# Altium footprint library CONN_HDR_2.54MM_ST_SMD.PcbLib: 27 footprints (part 1 of 2)
Each footprint in its own frame and in the unit in brackets; x right, y up, seen from the top. Pads: shape width x height; smd on the part's side, far side on the other; paste and mask are expansions set on the pad; w line width, h text height; cw(c..) or ccw(c..) is an arc to the next point about the centre after c.
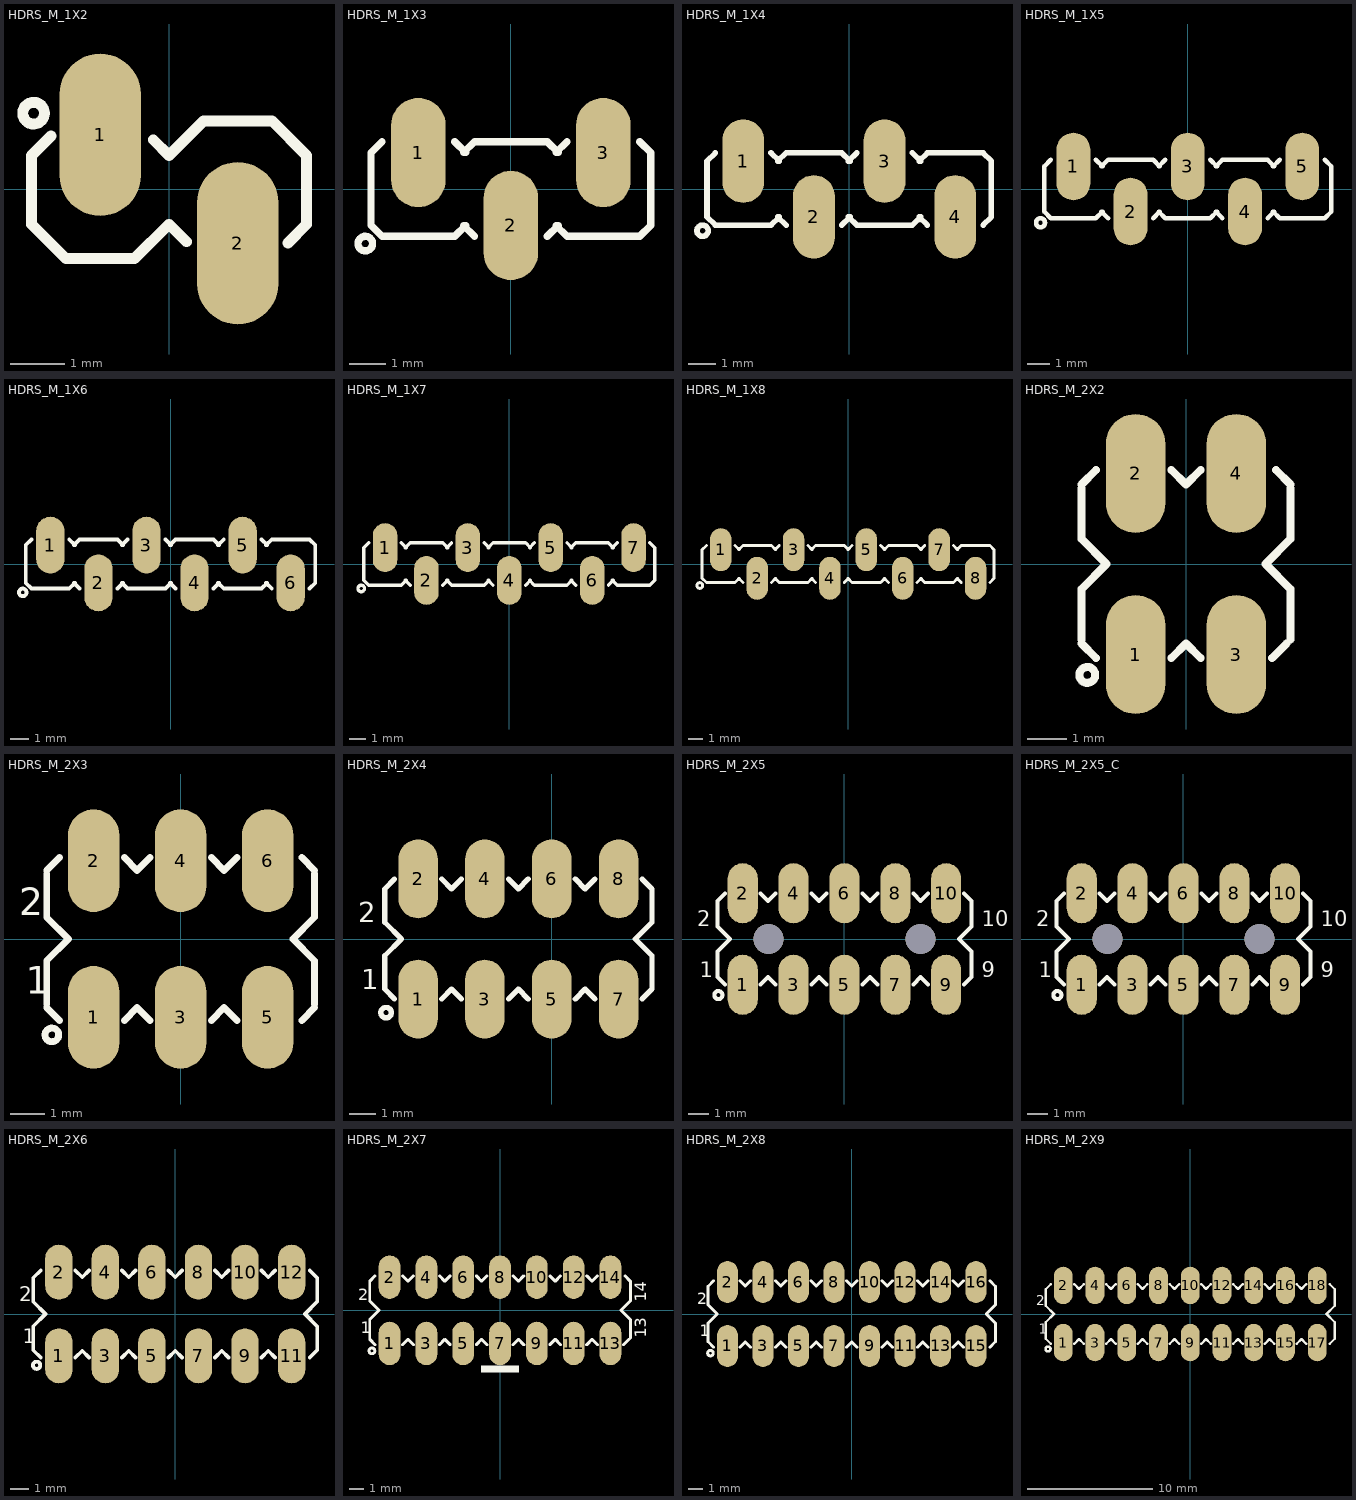
[diagram p0: the footprints below, top view; thin cyan lines are the x and y axes]

## HDRS_M_1X2 [mm] "HEADER, 2.54mm pitch, straight, SMD"
pads (2):
  oval 1.5x3 smd: 1(-1.27,1) 2(1.27,-1)
Top Overlay:
  circle w0.2: c-2.5,1.4 r0.2
  lines w0.2: -2.18,0.98 -2.54,0.619 -2.54,-0.651 -1.905,-1.286 -0.635,-1.286 0,-0.651 0.325,-0.975 ; -0.29,0.91 0,0.619 0.635,1.254 1.905,1.254 2.54,0.619 2.54,-0.651 2.195,-0.995

## HDRS_M_1X3 [mm] "HEADER, 2.54mm pitch, straight, SMD"
pads (3):
  oval 1.5x3 smd: 1(-2.54,1) 2(0,-1) 3(2.54,1)
Top Overlay:
  circle w0.2: c-4,-1.5 r0.2
  lines w0.2: -3.54,1.3 -3.84,1 -3.84,-1 -3.54,-1.3 -1.54,-1.3 -1.24,-1 ; -1.54,1.3 -1.24,1 ; -1.3,-1 -1,-1.3 ; -1.3,1 -1,1.3 1,1.3 1.3,1 ; 1,-1.3 1.3,-1 ; 1.24,-1 1.54,-1.3 3.54,-1.3 3.84,-1 3.84,1 3.54,1.3 ; 1.24,1 1.54,1.3
3D body "HEADER1X3SMD.stp": height 9.68, standoff 0.03, extent -3.81,-2.4 3.81,2.4

## HDRS_M_1X4 [mm] "HEADER, 2.54mm pitch, straight, SMD"
pads (4):
  oval 1.5x3 smd: 1(-3.81,1) 2(-1.27,-1) 3(1.27,1) 4(3.81,-1)
Top Overlay:
  circle w0.2: c-5.27,-1.5 r0.2
  lines w0.2: -4.81,1.3 -5.11,1 -5.11,-1 -4.81,-1.3 -2.81,-1.3 -2.51,-1 ; -2.81,1.3 -2.51,1 ; -2.57,-1 -2.27,-1.3 ; -2.57,1 -2.27,1.3 -0.27,1.3 0.03,1 ; -0.27,-1.3 0.03,-1 ; -0.03,-1 0.27,-1.3 2.27,-1.3 2.57,-1 ; -0.03,1 0.27,1.3 ; 2.27,1.3 2.57,1 ; 2.51,-1 2.81,-1.3 ; 2.51,1 2.81,1.3 4.81,1.3 5.11,1 5.11,-1 4.81,-1.3
3D body "HEADER1X3SMD.stp": height 9.68, standoff 0.03, extent -5.08,-2.4 2.54,2.4
3D body "HEADER1X3SMD.stp": height 9.68, standoff 0.03, extent -2.54,-2.4 5.08,2.4

## HDRS_M_1X5 [mm] "HEADER, 2.54mm pitch, straight, SMD"
pads (5):
  oval 1.5x3 smd: 1(-5.08,1) 2(-2.54,-1) 3(0,1) 4(2.54,-1) 5(5.08,1)
Top Overlay:
  circle w0.2: c-6.54,-1.5 r0.2
  lines w0.2: -6.08,1.3 -6.38,1 -6.38,-1 -6.08,-1.3 -4.08,-1.3 -3.78,-1 ; -4.08,1.3 -3.78,1 ; -3.84,-1 -3.54,-1.3 ; -3.84,1 -3.54,1.3 -1.54,1.3 -1.24,1 ; -1.54,-1.3 -1.24,-1 ; -1.3,-1 -1,-1.3 1,-1.3 1.3,-1 ; -1.3,1 -1,1.3 ; 1,1.3 1.3,1 ; 1.24,-1 1.54,-1.3 ; 1.24,1 1.54,1.3 3.54,1.3 3.84,1 ; 3.54,-1.3 3.84,-1 ; 3.78,-1 4.08,-1.3 6.08,-1.3 6.38,-1 6.38,1 6.08,1.3 ; 3.78,1 4.08,1.3
3D body "HEADER1X3SMD.stp": height 9.68, standoff 0.03, extent -1.27,-2.4 6.35,2.4
3D body "HEADER1X3SMD.stp": height 9.68, standoff 0.03, extent -6.35,-2.4 1.27,2.4
3D body "HEADER1X3SMD.stp": height 9.68, standoff 0.03, extent -3.81,-2.4 3.81,2.4

## HDRS_M_1X6 [mm] "HEADER, 2.54mm pitch, straight, SMD"
pads (6):
  oval 1.5x3 smd: 1(-6.35,1) 2(-3.81,-1) 3(-1.27,1) 4(1.27,-1) 5(3.81,1) 6(6.35,-1)
Top Overlay:
  circle w0.2: c-7.81,-1.5 r0.2
  lines w0.2: -7.35,1.3 -7.65,1 -7.65,-1 -7.35,-1.3 -5.35,-1.3 -5.05,-1 ; -5.35,1.3 -5.05,1 ; -5.11,-1 -4.81,-1.3 ; -5.11,1 -4.81,1.3 -2.81,1.3 -2.51,1 ; -2.81,-1.3 -2.51,-1 ; -2.57,-1 -2.27,-1.3 -0.27,-1.3 0.03,-1 ; -2.57,1 -2.27,1.3 ; -0.27,1.3 0.03,1 ; -0.03,-1 0.27,-1.3 ; -0.03,1 0.27,1.3 2.27,1.3 2.57,1 ; 2.27,-1.3 2.57,-1 ; 2.51,-1 2.81,-1.3 4.81,-1.3 5.11,-1 ; 2.51,1 2.81,1.3 ; 4.81,1.3 5.11,1 ; 5.05,-1 5.35,-1.3 ; 5.05,1 5.35,1.3 7.35,1.3 7.65,1 7.65,-1 7.35,-1.3
3D body "HEADER1X3SMD.stp": height 9.68, standoff 0.03, extent -7.62,-2.4 0,2.4
3D body "HEADER1X3SMD.stp": height 9.68, standoff 0.03, extent 0,-2.4 7.62,2.4

## HDRS_M_1X7 [mm] "HEADER, 2.54mm pitch, straight, SMD"
pads (7):
  oval 1.5x3 smd: 1(-7.62,1) 2(-5.08,-1) 3(-2.54,1) 4(0,-1) 5(2.54,1) 6(5.08,-1) 7(7.62,1)
Top Overlay:
  circle w0.2: c-9.08,-1.5 r0.2
  lines w0.2: -8.62,1.3 -8.92,1 -8.92,-1 -8.62,-1.3 -6.62,-1.3 -6.32,-1 ; -6.62,1.3 -6.32,1 ; -6.38,-1 -6.08,-1.3 ; -6.38,1 -6.08,1.3 -4.08,1.3 -3.78,1 ; -4.08,-1.3 -3.78,-1 ; -3.84,-1 -3.54,-1.3 -1.54,-1.3 -1.24,-1 ; -3.84,1 -3.54,1.3 ; -1.54,1.3 -1.24,1 ; -1.3,-1 -1,-1.3 ; -1.3,1 -1,1.3 1,1.3 1.3,1 ; 1,-1.3 1.3,-1 ; 1.24,-1 1.54,-1.3 3.54,-1.3 3.84,-1 ; 1.24,1 1.54,1.3 ; 3.54,1.3 3.84,1 ; 3.78,-1 4.08,-1.3 ; 3.78,1 4.08,1.3 6.08,1.3 6.38,1 ; 6.08,-1.3 6.38,-1 ; 6.32,-1 6.62,-1.3 8.62,-1.3 8.92,-1 8.92,1 8.62,1.3 ; 6.32,1 6.62,1.3
3D body "HEADER1X3SMD.stp": height 9.68, standoff 0.03, extent -8.89,-2.4 -1.27,2.4
3D body "HEADER1X3SMD.stp": height 9.68, standoff 0.03, extent -1.27,-2.4 6.35,2.4
3D body "HEADER1X3SMD.stp": height 9.68, standoff 0.03, extent 1.27,-2.4 8.89,2.4

## HDRS_M_1X8 [mm] "HEADER, 2.54mm pitch, straight, SMD"
pads (8):
  oval 1.5x3 smd: 1(-8.89,1) 2(-6.35,-1) 3(-3.81,1) 4(-1.27,-1) 5(1.27,1) 6(3.81,-1) 7(6.35,1) 8(8.89,-1)
Top Overlay:
  circle w0.2: c-10.35,-1.5 r0.2
  lines w0.2: -9.89,1.3 -10.19,1 -10.19,-1 -9.89,-1.3 -7.89,-1.3 -7.59,-1 ; -7.89,1.3 -7.59,1 ; -7.65,-1 -7.35,-1.3 ; -7.65,1 -7.35,1.3 -5.35,1.3 -5.05,1 ; -5.35,-1.3 -5.05,-1 ; -5.11,-1 -4.81,-1.3 -2.81,-1.3 -2.51,-1 ; -5.11,1 -4.81,1.3 ; -2.81,1.3 -2.51,1 ; -2.57,-1 -2.27,-1.3 ; -2.57,1 -2.27,1.3 -0.27,1.3 0.03,1 ; -0.27,-1.3 0.03,-1 ; -0.03,-1 0.27,-1.3 2.27,-1.3 2.57,-1 ; -0.03,1 0.27,1.3 ; 2.27,1.3 2.57,1 ; 2.51,-1 2.81,-1.3 ; 2.51,1 2.81,1.3 4.81,1.3 5.11,1 ; 4.81,-1.3 5.11,-1 ; 5.05,-1 5.35,-1.3 7.35,-1.3 7.65,-1 ; 5.05,1 5.35,1.3 ; 7.35,1.3 7.65,1 ; 7.59,-1 7.89,-1.3 ; 7.59,1 7.89,1.3 9.89,1.3 10.19,1 10.19,-1 9.89,-1.3
3D body "HEADER1X3SMD.stp": height 9.68, standoff 0.03, extent 2.54,-2.4 10.16,2.4
3D body "HEADER1X3SMD.stp": height 9.68, standoff 0.03, extent 0,-2.4 7.62,2.4
3D body "HEADER1X3SMD.stp": height 9.68, standoff 0.03, extent -7.62,-2.4 0,2.4
3D body "HEADER1X3SMD.stp": height 9.68, standoff 0.03, extent -10.16,-2.4 -2.54,2.4

## HDRS_M_2X2 [mm] "HEADER, 2.54mm pitch, straight, SMD"
pads (4):
  oval 1.5x3 smd: 1(-1.27,-2.286) 2(-1.27,2.286) 3(1.27,-2.286) 4(1.27,2.286)
Top Overlay:
  circle w0.2: c-2.49,-2.8 r0.2
  lines w0.2: -2.64,-2.005 -2.267,-2.378 ; -2.64,-1.905 -2.64,-0.635 -2.005,0 -2.64,0.635 -2.64,1.905 ; -2.64,2.005 -2.267,2.378 ; -0.373,-2.378 0,-2.005 0.373,-2.378 ; -0.373,2.378 0,2.005 0.373,2.378 ; 2.167,-2.378 2.54,-2.005 ; 2.267,2.378 2.64,2.005 ; 2.64,-1.905 2.64,-0.635 2.005,0 2.64,0.635 2.64,1.905
3D body "HEADER2X2SMD.stp": height 9.54, standoff -0.11, extent -2.54,-3.492 2.54,3.493

## HDRS_M_2X3 [mm] "HEADER, 2.54mm pitch, straight, SMD"
pads (6):
  oval 1.5x3 smd: 1(-2.54,-2.286) 2(-2.54,2.286) 3(0,-2.286) 4(0,2.286) 5(2.54,-2.286) 6(2.54,2.286)
Top Overlay:
  circle w0.2: c-3.76,-2.8 r0.2
  lines w0.2: -3.91,-2.005 -3.537,-2.378 ; -3.91,-1.905 -3.91,-0.635 -3.275,0 -3.91,0.635 -3.91,1.905 ; -3.91,2.005 -3.537,2.378 ; -1.643,-2.378 -1.27,-2.005 -0.897,-2.378 ; -1.643,2.378 -1.27,2.005 -0.897,2.378 ; 0.897,-2.378 1.27,-2.005 1.643,-2.378 ; 0.897,2.378 1.27,2.005 1.643,2.378 ; 3.537,-2.378 3.91,-2.005 ; 3.537,2.378 3.91,2.005 ; 3.91,-1.905 3.91,-0.635 3.275,0 3.91,0.635 3.91,1.905
  text "1" at -4.52,-1.6 h0.8
  text "2" at -4.72,0.7 h0.8
3D body "HEADER2X3SMD.stp": height 9.54, standoff -0.11, extent -3.81,-3.492 3.81,3.493

## HDRS_M_2X4 [mm] "HEADER, 2.54mm pitch, straight, SMD, TSM-105-01-X-DV-A"
pads (8):
  oval 1.5x3 smd: 1(-5.08,-2.286) 2(-5.08,2.286) 3(-2.54,-2.286) 4(-2.54,2.286) 5(0,-2.286) 6(0,2.286) 7(2.54,-2.286) 8(2.54,2.286)
Top Overlay:
  circle w0.2: c-6.3,-2.8 r0.2
  lines w0.2: -5.977,-2.278 -6.35,-1.905 -6.35,-0.635 -5.715,0 -6.35,0.635 -6.35,1.905 -5.977,2.278 ; -4.183,-2.278 -3.81,-1.905 -3.437,-2.278 ; -4.183,2.278 -3.81,1.905 -3.437,2.278 ; -1.643,-2.278 -1.27,-1.905 -0.897,-2.278 ; -1.643,2.278 -1.27,1.905 -0.897,2.278 ; 0.897,-2.278 1.27,-1.905 1.643,-2.278 ; 0.897,2.278 1.27,1.905 1.643,2.278 ; 3.437,-2.278 3.81,-1.905 3.81,-0.635 3.175,0 3.81,0.635 3.81,1.905 3.437,2.278
  text "1" at -7.239,-1.905 h0.76
  text "2" at -7.366,0.635 h0.76
3D body "HEADER2X2SMD.stp": height 9.54, standoff -0.11, extent -6.35,-3.492 -1.27,3.493
3D body "HEADER2X2SMD.stp": height 9.54, standoff -0.11, extent -1.27,-3.492 3.81,3.493

## HDRS_M_2X5 [mm] "HEADER, 2.54mm pitch, straight, SMD, TSM-105-01-X-DV-A"
pads (12):
  oval 1.5x3 smd: 1(-5.08,-2.286) 2(-5.08,2.286) 3(-2.54,-2.286) 4(-2.54,2.286) 5(0,-2.286) 6(0,2.286) 7(2.54,-2.286) 8(2.54,2.286) 9(5.08,-2.286) 10(5.08,2.286)
  round 1.5 hole 1.5 unplated mask+0.038: ""(-3.8,0) ""(3.8,0)
Top Overlay:
  circle w0.2: c-6.3,-2.8 r0.2
  lines w0.2: -5.977,-2.278 -6.35,-1.905 -6.35,-0.635 -5.715,0 -6.35,0.635 -6.35,1.905 -5.977,2.278 ; -4.183,-2.278 -3.81,-1.905 -3.437,-2.278 ; -4.183,2.278 -3.81,1.905 -3.437,2.278 ; -1.643,-2.278 -1.27,-1.905 -0.897,-2.278 ; -1.643,2.278 -1.27,1.905 -0.897,2.278 ; 0.897,-2.278 1.27,-1.905 1.643,-2.278 ; 0.897,2.278 1.27,1.905 1.643,2.278 ; 3.437,-2.278 3.81,-1.905 4.183,-2.278 ; 3.437,2.278 3.81,1.905 4.183,2.278 ; 5.977,-2.278 6.35,-1.905 6.35,-0.635 5.715,0 6.35,0.635 6.35,1.905 5.977,2.278
  text "9" at 6.858,-1.905 h0.76
  text "10" at 6.858,0.635 h0.76
  text "1" at -7.239,-1.905 h0.76
  text "2" at -7.366,0.635 h0.76
3D body "TSM-105-01-X-DV-A.STEP": height 9.65, standoff -1.27, extent -6.35,-3.683 6.35,3.683

## HDRS_M_2X5_C [mm] "HEADER, 2.54mm pitch, straight, SMD WITH CABLE"
pads (12):
  oval 1.5x3 smd: 1(-5.08,-2.286) 2(-5.08,2.286) 3(-2.54,-2.286) 4(-2.54,2.286) 5(0,-2.286) 6(0,2.286) 7(2.54,-2.286) 8(2.54,2.286) 9(5.08,-2.286) 10(5.08,2.286)
  round 1.5 hole 1.5 unplated mask+0.038: ""(-3.8,0) ""(3.8,0)
Top Overlay:
  circle w0.2: c-6.3,-2.8 r0.2
  lines w0.2: -5.977,-2.278 -6.35,-1.905 -6.35,-0.635 -5.715,0 -6.35,0.635 -6.35,1.905 -5.977,2.278 ; -4.183,-2.278 -3.81,-1.905 -3.437,-2.278 ; -4.183,2.278 -3.81,1.905 -3.437,2.278 ; -1.643,-2.278 -1.27,-1.905 -0.897,-2.278 ; -1.643,2.278 -1.27,1.905 -0.897,2.278 ; 0.897,-2.278 1.27,-1.905 1.643,-2.278 ; 0.897,2.278 1.27,1.905 1.643,2.278 ; 3.437,-2.278 3.81,-1.905 4.183,-2.278 ; 3.437,2.278 3.81,1.905 4.183,2.278 ; 5.977,-2.278 6.35,-1.905 6.35,-0.635 5.715,0 6.35,0.635 6.35,1.905 5.977,2.278
  text "2" at -7.366,0.635 h0.76
  text "1" at -7.239,-1.905 h0.76
  text "10" at 6.858,0.635 h0.76
  text "9" at 6.858,-1.905 h0.76
3D body "TSM-105-01-X-DV-A.STEP": height 9.65, standoff -1.27, extent -6.35,-3.683 6.35,3.683
3D body "10 Pin (2.5 mm Pitch) IDC Connector.stp": height 76.91, standoff 3.91, extent -8.696,-4.133 8.595,4.265

## HDRS_M_2X6 [mm] "HEADER, 2.54mm pitch, straight, SMD"
pads (12):
  oval 1.5x3 smd: 1(-6.35,-2.286) 2(-6.35,2.286) 3(-3.81,-2.286) 4(-3.81,2.286) 5(-1.27,-2.286) 6(-1.27,2.286) 7(1.27,-2.286) 8(1.27,2.286) 9(3.81,-2.286) 10(3.81,2.286) 11(6.35,-2.286) 12(6.35,2.286)
Top Overlay:
  circle w0.2: c-7.57,-2.8 r0.2
  lines w0.2: -7.347,-2.378 -7.747,-1.978 -7.747,-0.662 -7.085,0 -7.747,0.662 -7.747,1.978 -7.347,2.378 ; -5.453,-2.378 -5.08,-2.005 -4.707,-2.378 ; -5.453,2.378 -5.08,2.005 -4.707,2.378 ; -2.913,-2.378 -2.54,-2.005 -2.167,-2.378 ; -2.913,2.378 -2.54,2.005 -2.167,2.378 ; -0.373,-2.378 0,-2.005 0.373,-2.378 ; -0.373,2.378 0,2.005 0.373,2.378 ; 2.167,-2.378 2.54,-2.005 2.913,-2.378 ; 2.167,2.378 2.54,2.005 2.913,2.378 ; 4.707,-2.378 5.08,-2.005 5.453,-2.378 ; 4.707,2.378 5.08,2.005 5.453,2.378 ; 7.347,-2.378 7.747,-1.978 7.747,-0.662 7.085,0 7.747,0.662 7.747,1.978 7.347,2.378
  text "2" at -8.53,0.7 h0.8
  text "1" at -8.33,-1.6 h0.8
3D body "HEADER2X3SMD.stp": height 9.54, standoff -0.11, extent 0,-3.492 7.62,3.493
3D body "HEADER2X3SMD.stp": height 9.54, standoff -0.11, extent -7.62,-3.492 0,3.493

## HDRS_M_2X7 [mm] "HEADER, 2.54mm pitch, straight, SMD"
pads (14):
  oval 1.5x3 smd: 1(-7.62,-2.286) 2(-7.62,2.286) 3(-5.08,-2.286) 4(-5.08,2.286) 5(-2.54,-2.286) 6(-2.54,2.286) 7(0,-2.286) 8(0,2.286) 9(2.54,-2.286) 10(2.54,2.286) 11(5.08,-2.286) 12(5.08,2.286) 13(7.62,-2.286) 14(7.62,2.286)
Top Overlay:
  circle w0.2: c-8.84,-2.8 r0.2
  rectangle: -1.3,-4.3 1.3,-3.8
  lines w0.2: -8.99,-2.005 -8.617,-2.378 ; -8.99,-1.905 -8.99,-0.635 -8.355,0 -8.99,0.635 -8.99,1.905 ; -8.99,2.005 -8.617,2.378 ; -6.723,-2.378 -6.35,-2.005 -5.977,-2.378 ; -6.723,2.378 -6.35,2.005 -5.977,2.378 ; -4.183,-2.378 -3.81,-2.005 -3.437,-2.378 ; -4.183,2.378 -3.81,2.005 -3.437,2.378 ; -1.643,-2.378 -1.27,-2.005 -0.897,-2.378 ; -1.643,2.378 -1.27,2.005 -0.897,2.378 ; 0.897,-2.378 1.27,-2.005 1.643,-2.378 ; 0.897,2.378 1.27,2.005 1.643,2.378 ; 3.437,-2.378 3.81,-2.005 4.183,-2.378 ; 3.437,2.378 3.81,2.005 4.183,2.378 ; 5.977,-2.378 6.35,-2.005 6.723,-2.378 ; 5.977,2.378 6.35,2.005 6.723,2.378 ; 8.517,-2.378 8.89,-2.005 ; 8.617,2.378 8.99,2.005 ; 8.99,-1.905 8.99,-0.635 8.355,0 8.99,0.635 8.99,1.905
  text "14" at 10.1,0.6 h0.8
  text "13" at 10.1,-1.9 h0.8
  text "2" at -9.8,0.7 h0.8
  text "1" at -9.6,-1.6 h0.8
3D body "HEADER2X7SMD.stp": height 9.54, standoff -0.11, extent -8.89,-3.492 8.89,3.493

## HDRS_M_2X8 [mm] "HEADER, 2.54mm pitch, straight, SMD"
pads (16):
  oval 1.5x3 smd: 1(-8.89,-2.286) 2(-8.89,2.286) 3(-6.35,-2.286) 4(-6.35,2.286) 5(-3.81,-2.286) 6(-3.81,2.286) 7(-1.27,-2.286) 8(-1.27,2.286) 9(1.27,-2.286) 10(1.27,2.286) 11(3.81,-2.286) 12(3.81,2.286) 13(6.35,-2.286) 14(6.35,2.286) 15(8.89,-2.286) 16(8.89,2.286)
Top Overlay:
  circle w0.2: c-10.11,-2.8 r0.2
  lines w0.2: -9.887,-2.378 -10.287,-1.978 -10.287,-0.662 -9.625,0 -10.287,0.662 -10.287,1.978 -9.887,2.378 ; -7.993,-2.378 -7.62,-2.005 -7.247,-2.378 ; -7.993,2.378 -7.62,2.005 -7.247,2.378 ; -5.453,-2.378 -5.08,-2.005 -4.707,-2.378 ; -5.453,2.378 -5.08,2.005 -4.707,2.378 ; -2.913,-2.378 -2.54,-2.005 -2.167,-2.378 ; -2.913,2.378 -2.54,2.005 -2.167,2.378 ; -0.373,-2.378 0,-2.005 0.373,-2.378 ; -0.373,2.378 0,2.005 0.373,2.378 ; 2.167,-2.378 2.54,-2.005 2.913,-2.378 ; 2.167,2.378 2.54,2.005 2.913,2.378 ; 4.707,-2.378 5.08,-2.005 5.453,-2.378 ; 4.707,2.378 5.08,2.005 5.453,2.378 ; 7.247,-2.378 7.62,-2.005 7.993,-2.378 ; 7.247,2.378 7.62,2.005 7.993,2.378 ; 9.887,-2.378 10.287,-1.978 10.287,-0.662 9.625,0 10.287,0.662 10.287,1.978 9.887,2.378
  text "2" at -11.07,0.7 h0.8
  text "1" at -10.87,-1.6 h0.8
3D body "HEADER2X2SMD.stp": height 9.54, standoff -0.11, extent 5.08,-3.492 10.16,3.493
3D body "HEADER2X2SMD.stp": height 9.54, standoff -0.11, extent 0,-3.492 5.08,3.493
3D body "HEADER2X2SMD.stp": height 9.54, standoff -0.11, extent -5.08,-3.492 0,3.493
3D body "HEADER2X2SMD.stp": height 9.54, standoff -0.11, extent -10.16,-3.492 -5.08,3.493

## HDRS_M_2X9 [mm] "HEADER, 2.54mm pitch, straight, SMD"
pads (18):
  oval 1.5x3 smd: 1(-10.16,-2.286) 2(-10.16,2.286) 3(-7.62,-2.286) 4(-7.62,2.286) 5(-5.08,-2.286) 6(-5.08,2.286) 7(-2.54,-2.286) 8(-2.54,2.286) 9(0,-2.286) 10(0,2.286) 11(2.54,-2.286) 12(2.54,2.286) 13(5.08,-2.286) 14(5.08,2.286) 15(7.62,-2.286) 16(7.62,2.286) 17(10.16,-2.286) 18(10.16,2.286)
Top Overlay:
  circle w0.2: c-11.38,-2.8 r0.2
  lines w0.2: -11.157,-2.378 -11.557,-1.978 -11.557,-0.662 -10.895,0 -11.557,0.662 -11.557,1.978 -11.157,2.378 ; -9.263,-2.378 -8.89,-2.005 -8.517,-2.378 ; -9.263,2.378 -8.89,2.005 -8.517,2.378 ; -6.723,-2.378 -6.35,-2.005 -5.977,-2.378 ; -6.723,2.378 -6.35,2.005 -5.977,2.378 ; -4.183,-2.378 -3.81,-2.005 -3.437,-2.378 ; -4.183,2.378 -3.81,2.005 -3.437,2.378 ; -1.643,-2.378 -1.27,-2.005 -0.897,-2.378 ; -1.643,2.378 -1.27,2.005 -0.897,2.378 ; 0.897,-2.378 1.27,-2.005 1.643,-2.378 ; 0.897,2.378 1.27,2.005 1.643,2.378 ; 3.437,-2.378 3.81,-2.005 4.183,-2.378 ; 3.437,2.378 3.81,2.005 4.183,2.378 ; 5.977,-2.378 6.35,-2.005 6.723,-2.378 ; 5.977,2.378 6.35,2.005 6.723,2.378 ; 8.517,-2.378 8.89,-2.005 9.263,-2.378 ; 8.517,2.378 8.89,2.005 9.263,2.378 ; 11.157,-2.378 11.557,-1.978 11.557,-0.662 10.895,0 11.557,0.662 11.557,1.978 11.157,2.378
  text "2" at -12.34,0.7 h0.8
  text "1" at -12.14,-1.6 h0.8
3D body "HEADER2X2SMD.stp": height 9.54, standoff -0.11, extent 6.35,-3.492 11.43,3.493
3D body "HEADER2X2SMD.stp": height 9.54, standoff -0.11, extent 1.27,-3.492 6.35,3.493
3D body "HEADER2X3SMD.stp": height 9.54, standoff -0.11, extent -6.35,-3.492 1.27,3.493
3D body "HEADER2X2SMD.stp": height 9.54, standoff -0.11, extent -11.43,-3.492 -6.35,3.493